# EAGLE library part 693161011911 (library USB_c_conn)
SD Card Connector 4.0 Push & Push with Card Detection - 19 pins WR-CRD P Characteristics MATERIAL PROPERTIES INSULATOR: Color Black Insulator Material LCP Contact Material Copper Alloy Contact Plating Gold Contact Type Stamped Cover Material Stainless Steel Cover Plating Nickel KIND PROPERTIES Quality Class10 000 Mating cycles GENERAL INFORMATION Operating Temperature -20 °C up to +60 °C Insulator Flammability Rating UL94-V0 ELECTRICAL PROPERTIES Rated Current 1 A Working Voltage 10 V (AC) Withstanding Voltage 500 V (AC) Contact Resistance 100 mΩ Insulation Resistance 1000 MΩ PACKAGING PROPERTIES Packaging Tape and Reel <http://katalog.we-online.de/media/images/v2/Family_WR-CRD_693161011911.jpg> Details see: http://katalog.we-online.de/en/em/CRD_SMT_SD_PUSH_AND_PUSH_CARD_DETECTION_19_PINS/693161011911 2016 (C) Wurth Elektronik
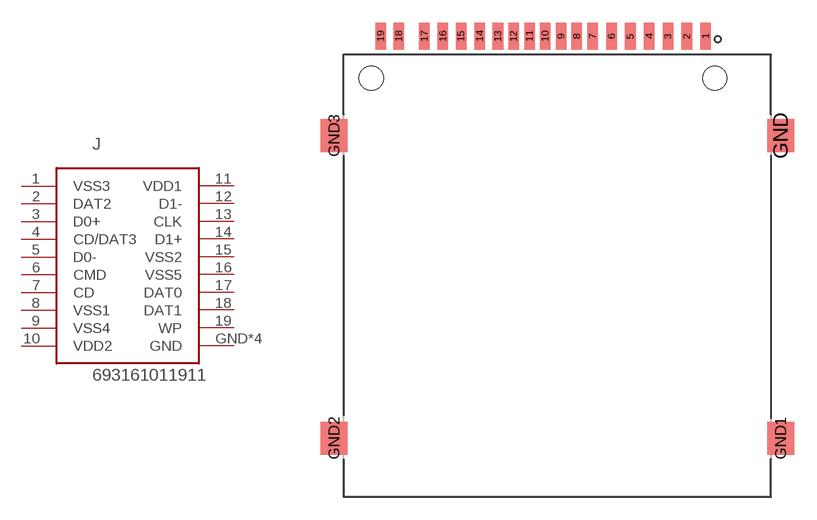
[diagram p172: symbol with the pads of 693161011911; footprint 693161011911]

Designator prefix J

## 693161011911  [693161011911]
1  VSS3
2  DAT2
3  D0+
4  CD/DAT3
5  D0-
6  CMD
7  CD
8  VSS1
9  VSS4
10  VDD2
11  VDD1
12  D1-
13  CLK
14  D1+
15  VSS2
16  VSS5
17  DAT0
18  DAT1
19  WP
GND  GND
GND1  GND
GND2  GND
GND3  GND

## Footprint 693161011911 (pad centres in mm)
SD 4.0 PUSH & PUSH TYPE SMT - WITH CARD DETECTION- 3.00 MM HEIGHT
smd 0.7 x 1.8: 1 9.85,0; 2 8.6,0; 3 7.35,0; 4 6.1,0; 5 4.85,0; 6 3.6,0; 7 2.35,0; 8 1.3,0; 9 0.25,0; 10 -0.8,0; 11 -1.84,0; 12 -2.9,0; 13 -3.94,0; 14 -5.15,0; 15 -6.39,0; 16 -7.59,0; 17 -8.82,0; 18 -10.52,0; 19 -11.72,0
smd 1.8 x 2.2: GND 14.825,-6.6; GND1 14.825,-26.7; GND2 -14.825,-26.7; GND3 -14.825,-6.6
hole 1.6 at -12.35,-2.8
hole 1.6 at 10.45,-2.8